# Altium schematic symbol library NCP1117DT33T5G.Schlib: 1 symbol
Pins are listed as number, name and electrical type; pins without a type are passive.

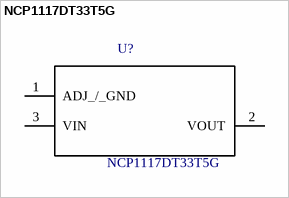
[diagram p0: symbol NCP1117DT33T5G]

## NCP1117DT33T5G
designator U?
Linear Voltage Regulator IC Positive Fixed 1 Output 1A DPAK
footprint DPAK (TO-252)
pins: 1 ADJ_/_GND (power), 2 VOUT (power), 3 VIN (power)